# Altium footprint library QFN50P500X500X100-33T325X325L.PcbLib: 1 footprints
Each footprint in its own frame and in the unit in brackets; x right, y up, seen from the top. Pads: shape width x height; smd on the part's side, far side on the other; paste and mask are expansions set on the pad; w line width, h text height; cw(c..) or ccw(c..) is an arc to the next point about the centre after c.
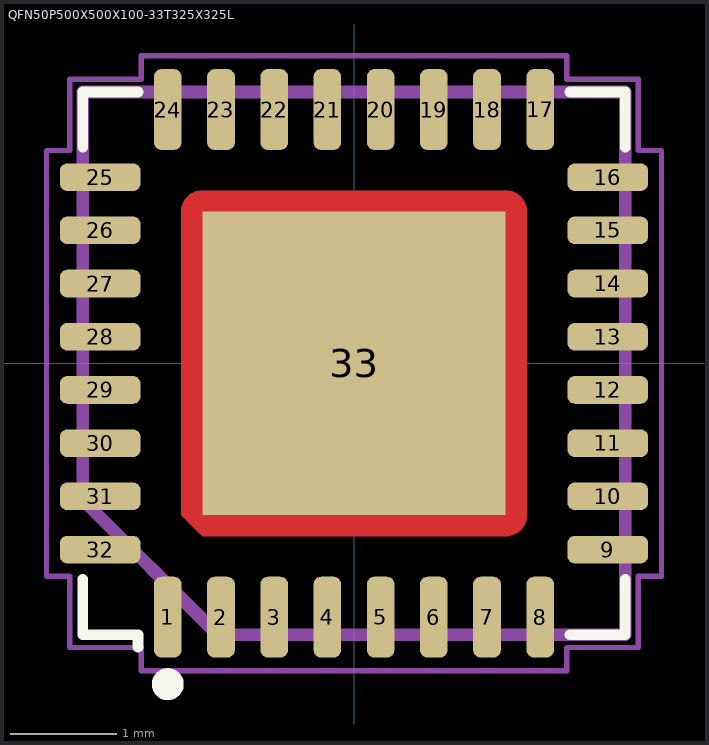
[diagram p0: the footprint, top view; thin cyan lines are the x and y axes]

## QFN50P500X500X100-33T325X325L [mm] "Quad Flat No-Lead (QFN with Tab), 0.50 mm pitch; square, 8 pin X 8 pin, 5.00 mm L X 5.00 mm W X 1.00 mm H body"
height 1
pads (33):
  rrect54% 0.26x0.76 smd: 1(-1.75,-2.385) 2(-1.25,-2.385) 3(-0.75,-2.385) 4(-0.25,-2.385) 5(0.25,-2.385) 6(0.75,-2.385) 7(1.25,-2.385) 8(1.75,-2.385) 17(1.75,2.385) 18(1.25,2.385) 19(0.75,2.385) 20(0.25,2.385) 21(-0.25,2.385) 22(-0.75,2.385) 23(-1.25,2.385) 24(-1.75,2.385)
  rrect54% 0.76x0.26 smd: 9(2.385,-1.75) 10(2.385,-1.25) 11(2.385,-0.75) 12(2.385,-0.25) 13(2.385,0.25) 14(2.385,0.75) 15(2.385,1.25) 16(2.385,1.75) 25(-2.385,1.75) 26(-2.385,1.25) 27(-2.385,0.75) 28(-2.385,0.25) 29(-2.385,-0.25) 30(-2.385,-0.75) 31(-2.385,-1.25) 32(-2.385,-1.75)
  rect 2.85x2.85 smd paste-2.85 mask+0: 33(0,0)
Top Layer:
  region: 1.625,0 1.625,-1.425 1.623,-1.456 1.615,-1.487 1.603,-1.516 1.587,-1.543 1.566,-1.566 1.543,-1.587 1.516,-1.603 1.487,-1.615 1.456,-1.623 -1.425,-1.625 -1.625,-1.425 -1.625,1.425 -1.623,1.456 -1.615,1.487 -1.603,1.516 -1.587,1.543 -1.566,1.566 -1.543,1.587 -1.516,1.603 -1.487,1.615 -1.456,1.623 1.425,1.625 1.456,1.623 1.487,1.615 1.516,1.603 1.543,1.587 1.566,1.566 1.587,1.543 1.603,1.516 1.615,1.487 1.623,1.456 1.625,1.425
Top Overlay:
  circle w0.15: c-1.75,-3.015 r0.075
  lines w0.1: -2.55,-2.03 -2.55,-2.55 -2.03,-2.55 -2.03,-2.665 ; -2.55,2.03 -2.55,2.55 -2.03,2.55 ; 2.03,-2.55 2.55,-2.55 2.55,-2.03 ; 2.03,2.55 2.55,2.55 2.55,2.03
Top Paste:
  region: 1.31,-1.31 0.16,-1.31 0.16,-0.16 1.31,-0.16
  region: 1.31,0.16 0.16,0.16 0.16,1.31 1.31,1.31
  region: -0.16,-1.31 -1.31,-1.31 -1.31,-0.16 -0.16,-0.16
  region: -0.16,0.16 -1.31,0.16 -1.31,1.31 -0.16,1.31
Top Solder:
  region: 1.625,0 1.625,-1.425 1.623,-1.456 1.615,-1.487 1.603,-1.516 1.587,-1.543 1.566,-1.566 1.543,-1.587 1.516,-1.603 1.487,-1.615 1.456,-1.623 -1.425,-1.625 -1.625,-1.425 -1.625,1.425 -1.623,1.456 -1.615,1.487 -1.603,1.516 -1.587,1.543 -1.566,1.566 -1.543,1.587 -1.516,1.603 -1.487,1.615 -1.456,1.623 1.425,1.625 1.456,1.623 1.487,1.615 1.516,1.603 1.543,1.587 1.566,1.566 1.587,1.543 1.603,1.516 1.615,1.487 1.623,1.456 1.625,1.425
Fab - Detail1, HDI1:
  lines w0.12: -2.55,-1.28 -1.28,-2.55 2.55,-2.55 2.55,2.55 -2.55,2.55 -2.55,-1.28
Courtyards/Models - Top:
  circle w0.05: c0,0 r0.25
  lines w0.05: -0.35,0 0.35,0 ; 0,-0.35 0,0.35 ; -2.89,-2 -2.89,2 -2.67,2 -2.67,2.67 -2,2.67 -2,2.89 2,2.89 2,2.67 2.67,2.67 2.67,2 2.89,2 2.89,-2 2.67,-2 2.67,-2.67 2,-2.67 2,-2.89 -2,-2.89 -2,-2.67 -2.67,-2.67 -2.67,-2 -2.89,-2
3D body: height 1, standoff 0.05, extent -2.54,-2.54 2.54,2.54